# Altium footprint library cw32无刷驱动.PcbLib: 33 footprints (part 1 of 3)
Each footprint in its own frame and in the unit in brackets; x right, y up, seen from the top. Pads: shape width x height; smd on the part's side, far side on the other; paste and mask are expansions set on the pad; w line width, h text height; cw(c..) or ccw(c..) is an arc to the next point about the centre after c.
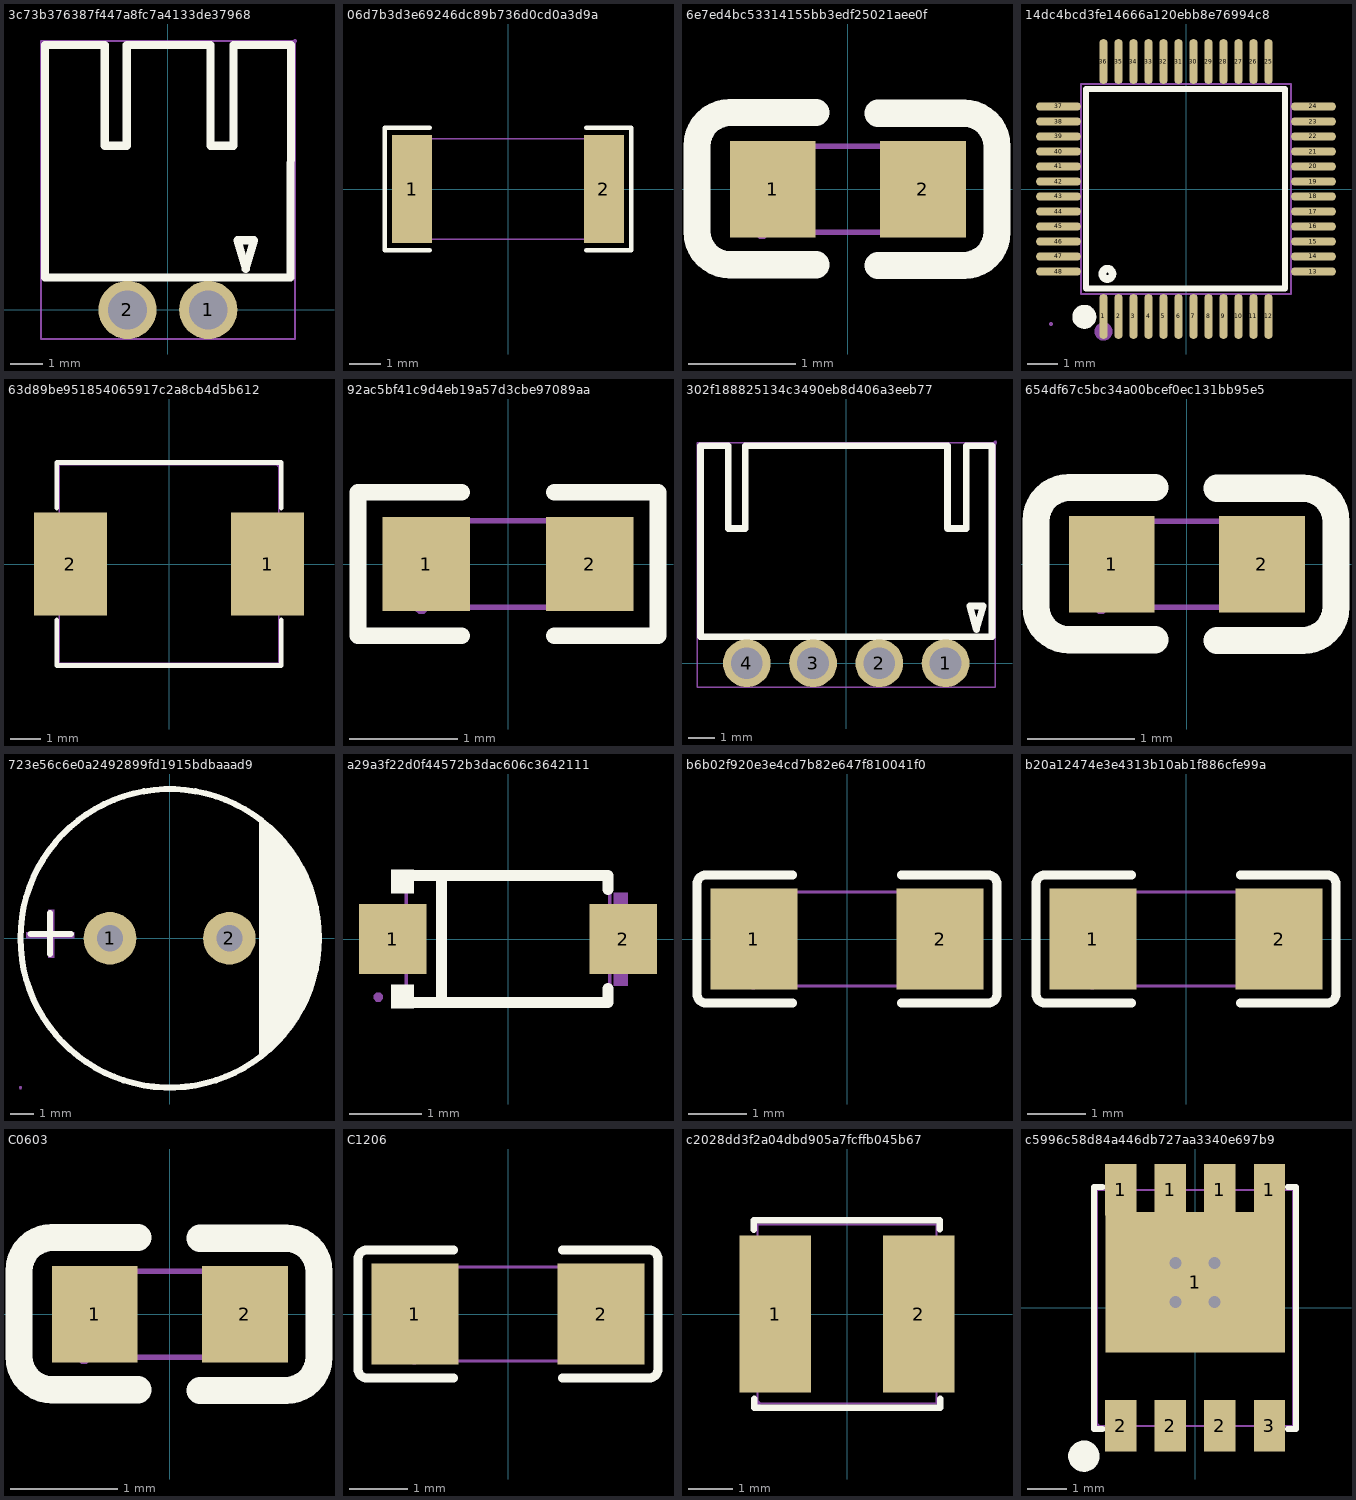
[diagram p0: the footprints below, top view; thin cyan lines are the x and y axes]

## 3c73b376387f447a8fc7a4133de37968 [mm]
pads (2):
  round 1.801 hole 1.199 mask+0.051: 1(1.25,0) 2(-1.25,0)
Top Overlay:
  lines w0.254: -3.8,1.001 3.8,1.001 3.81,8.199 2.032,8.199 2.032,5.08 1.323,5.08 1.323,8.199 -1.27,8.199 -1.27,5.08 -1.953,5.08 -1.953,8.199 -3.8,8.199 -3.8,1.001 ; 2.159,2.159 2.413,1.27 2.667,2.159 2.159,2.159
Mechanical 15:
  region: 3.937,8.387 3.912,8.387 3.876,8.351 3.876,8.301 3.912,8.265 3.937,8.265 3.962,8.265 3.998,8.301 3.998,8.351 3.962,8.387 3.937,8.387
  region: 1.25,0.5 1.15,0.5 0.966,0.424 0.825,0.283 0.749,0.1 0.749,-0.1 0.825,-0.283 0.966,-0.424 1.15,-0.5 1.25,-0.5 1.349,-0.5 1.533,-0.424 1.674,-0.283 1.75,-0.1 1.75,0.1 1.674,0.283 1.533,0.424 1.349,0.5 1.25,0.5
  region: -1.25,0.5 -1.349,0.5 -1.533,0.424 -1.674,0.283 -1.75,0.1 -1.75,-0.1 -1.674,-0.283 -1.533,-0.424 -1.349,-0.5 -1.25,-0.5 -1.15,-0.5 -0.966,-0.424 -0.825,-0.283 -0.749,-0.1 -0.749,0.1 -0.825,0.283 -0.966,0.424 -1.15,0.5 -1.25,0.5
  lines w0.051: -3.927,-0.899 -3.927,8.326 3.937,8.326 3.937,-0.899 -3.927,-0.899

## 06d7b3d3e69246dc89b736d0cd0a3d9a [mil]
pads (2):
  rect 50.5x136.1 smd mask+2: 1(-120.7,0) 2(120.7,0)
Top Overlay:
  lines w6: -98.5,-77 -155,-77 -155,77 -98.5,77 ; 98.5,-77 155,-77 155,77 98.5,77
Top Paste:
  region: 95.5,-64.1 95.5,-27.1 99.4,-23.1 108.7,-23.1 112.6,-19.2 112.6,19.2 108.7,23.1 99.4,23.1 95.5,27.1 95.5,64.1 99.4,68 142,68 146,64.1 146,-64.1 142,-68 99.4,-68
  region: -95.5,-64.1 -95.5,-27.1 -99.4,-23.1 -108.7,-23.1 -112.6,-19.2 -112.6,19.2 -108.7,23.1 -99.4,23.1 -95.5,27.1 -95.5,64.1 -99.4,68 -142,68 -146,64.1 -146,-64.1 -142,-68 -99.4,-68
Mechanical 15:
  region: -125,-60.6 -125.99,-60.6 -127.4,-62.01 -127.4,-63.99 -125.99,-65.4 -125,-65.4 -124.01,-65.4 -122.6,-63.99 -122.6,-62.01 -124.01,-60.6 -125,-60.6
  region: -124,-63 -124,63 -100.4,63 -100.4,-63
  region: 100.4,-63 100.4,63 124,63 124,-63
  lines w2: -124,-63 -124,63 124,63 124,-63 -124,-63

## 6e7ed4bc53314155bb3edf25021aee0f [mm]
pads (2):
  rect 0.8x0.9 smd mask+0.051: 1(-0.7,0) 2(0.7,0)
Top Overlay:
  lines w0.254: -0.296,-0.704 -1.096,-0.704 cw(c-1.096,-0.394) -1.406,-0.394 -1.405,0.406 cw(c-1.096,0.406) -1.096,0.715 -0.296,0.715 ; 0.28,-0.71 1.08,-0.71 ccw(c1.08,-0.4) 1.39,-0.4 1.39,0.4 ccw(c1.08,0.4) 1.08,0.71 0.28,0.71
Mechanical 15:
  region: -0.8,-0.34 -0.825,-0.34 -0.86,-0.375 -0.86,-0.425 -0.825,-0.46 -0.8,-0.46 -0.775,-0.46 -0.74,-0.425 -0.74,-0.375 -0.775,-0.34 -0.8,-0.34
  region: -0.8,-0.4 -0.8,0.4 -0.5,0.4 -0.5,-0.4
  region: 0.8,-0.4 0.8,0.4 0.5,0.4 0.5,-0.4
  lines w0.051: -0.8,-0.4 -0.8,0.4 0.8,0.4 0.8,-0.4 -0.8,-0.4

## 14dc4bcd3fe14666a120ebb8e76994c8 [mm]
pads (48):
  oval 0.27x1.5 smd mask+0.05: 1(-2.75,-4.25) 2(-2.25,-4.25) 3(-1.75,-4.25) 4(-1.25,-4.25) 5(-0.75,-4.25) 6(-0.25,-4.25) 7(0.25,-4.25) 8(0.75,-4.25) 9(1.25,-4.25) 10(1.75,-4.25) 11(2.25,-4.25) 12(2.75,-4.25) 25(2.75,4.25) 26(2.25,4.25) 27(1.75,4.25) 28(1.25,4.25) 29(0.75,4.25) 30(0.25,4.25) 31(-0.25,4.25) 32(-0.75,4.25) 33(-1.25,4.25) 34(-1.75,4.25) 35(-2.25,4.25) 36(-2.75,4.25)
  oval 1.5x0.27 smd mask+0.05: 13(4.25,-2.75) 14(4.25,-2.25) 15(4.25,-1.75) 16(4.25,-1.25) 17(4.25,-0.75) 18(4.25,-0.25) 19(4.25,0.25) 20(4.25,0.75) 21(4.25,1.25) 22(4.25,1.75) 23(4.25,2.25) 24(4.25,2.75) 37(-4.25,2.75) 38(-4.25,2.25) 39(-4.25,1.75) 40(-4.25,1.25) 41(-4.25,0.75) 42(-4.25,0.25) 43(-4.25,-0.25) 44(-4.25,-0.75) 45(-4.25,-1.25) 46(-4.25,-1.75) 47(-4.25,-2.25) 48(-4.25,-2.75)
Top Overlay:
  circle w0.254: c-2.62,-2.83 r0.17
  lines w0.2: -2.896,3.34 3.302,3.34 3.302,-3.315 -3.327,-3.315 -3.327,3.34 -2.565,3.34
  lines w0.4: -3.39,-4.06 ccw(c-3.389,-4.26) -3.387,-4.06
Mechanical 6:
  circle w0.3: c-2.75,-4.75 r0.15
Mechanical 15:
  drawing of 101 lines, arcs and shapes, not listed

## 63d89be951854065917c2a8cb4d5b612 [mm]
pads (2):
  rect 2.423x3.419 smd mask+0.051: 1(3.279,0) 2(-3.279,0)
Top Overlay:
  lines w0.152: -3.726,-1.862 -3.726,-3.376 3.726,-3.376 3.726,-1.862 ; -3.726,1.862 -3.726,3.376 3.726,3.376 3.726,1.862
Mechanical 15:
  region: 3.65,3.36 3.625,3.36 3.589,3.325 3.589,3.274 3.625,3.238 3.65,3.238 3.675,3.238 3.711,3.274 3.711,3.325 3.675,3.36 3.65,3.36
  region: -3.65,-1.501 -3.65,1.501 -2.149,1.501 -2.149,-1.501
  region: 3.65,-1.501 3.65,1.501 2.149,1.501 2.149,-1.501
  lines w0.051: -3.65,-3.299 -3.65,3.299 3.65,3.299 3.65,-3.299 -3.65,-3.299

## 92ac5bf41c9d4eb19a57d3cbe97089aa [mm]
pads (2):
  rect 0.806x0.864 smd mask+0.051: 1(-0.753,0) 2(0.753,0)
Top Overlay:
  lines w0.152: -0.426,-0.661 -1.385,-0.661 -1.385,0.661 -0.426,0.661 ; 0.426,-0.661 1.385,-0.661 1.385,0.661 0.426,0.661
Top Paste:
  region: 1.195,0.45 0.395,0.45 0.345,0.4 0.345,0.172 0.715,0.172 0.715,-0.158 0.345,-0.158 0.345,-0.4 0.395,-0.45 1.195,-0.45 1.245,-0.4 1.245,0.4
  region: -0.355,0.4 -0.355,0.172 -0.735,0.172 -0.735,-0.158 -0.355,-0.158 -0.355,-0.4 -0.405,-0.45 -1.195,-0.45 -1.245,-0.4 -1.245,0.4 -1.195,0.45 -0.405,0.45
Mechanical 15:
  region: -0.74,-0.4 -0.74,-0.375 -0.775,-0.34 -0.825,-0.34 -0.86,-0.375 -0.86,-0.4 -0.86,-0.425 -0.825,-0.46 -0.775,-0.46 -0.74,-0.425 -0.74,-0.4
  region: -0.8,-0.4 -0.8,0.4 -0.5,0.4 -0.5,-0.4
  region: 0.8,-0.4 0.8,0.4 0.5,0.4 0.5,-0.4
  lines w0.051: -0.8,-0.4 -0.8,0.4 0.8,0.4 0.8,-0.4 -0.8,-0.4

## 302f188825134c3490eb8d406a3eeb77 [mm]
pads (4):
  round 1.801 hole 1.199 mask+0.051: 1(3.749,0) 2(1.25,0) 3(-1.25,0) 4(-3.749,0)
Top Overlay:
  lines w0.254: -5.502,1.001 5.499,1.001 5.499,8.199 4.531,8.199 4.531,5.08 3.823,5.08 3.823,8.199 -3.81,8.199 -3.81,5.08 -4.445,5.08 -4.445,8.199 -5.502,8.199 ; -5.499,1.001 -5.499,8.199 ; 4.658,2.159 5.166,2.159 4.912,1.27 4.658,2.159
Mechanical 15:
  region: 4.249,0 4.249,0.1 4.173,0.283 4.032,0.424 3.849,0.5 3.65,0.5 3.466,0.424 3.325,0.283 3.249,0.1 3.249,0 3.249,-0.1 3.325,-0.283 3.466,-0.424 3.65,-0.5 3.849,-0.5 4.032,-0.424 4.173,-0.283 4.249,-0.1 4.249,0
  region: 1.75,0 1.75,0.1 1.674,0.283 1.533,0.424 1.349,0.5 1.15,0.5 0.966,0.424 0.825,0.283 0.749,0.1 0.749,0 0.749,-0.1 0.825,-0.283 0.966,-0.424 1.15,-0.5 1.349,-0.5 1.533,-0.424 1.674,-0.283 1.75,-0.1 1.75,0
  region: -0.749,0 -0.749,0.1 -0.825,0.283 -0.966,0.424 -1.15,0.5 -1.349,0.5 -1.533,0.424 -1.674,0.283 -1.75,0.1 -1.75,0 -1.75,-0.1 -1.674,-0.283 -1.533,-0.424 -1.349,-0.5 -1.15,-0.5 -0.966,-0.424 -0.825,-0.283 -0.749,-0.1 -0.749,0
  region: -3.249,0 -3.249,0.1 -3.325,0.283 -3.466,0.424 -3.65,0.5 -3.849,0.5 -4.032,0.424 -4.173,0.283 -4.249,0.1 -4.249,0 -4.249,-0.1 -4.173,-0.283 -4.032,-0.424 -3.849,-0.5 -3.65,-0.5 -3.466,-0.424 -3.325,-0.283 -3.249,-0.1 -3.249,0
  region: 5.687,8.326 5.687,8.351 5.651,8.387 5.601,8.387 5.565,8.351 5.565,8.326 5.565,8.301 5.601,8.265 5.651,8.265 5.687,8.301 5.687,8.326
  lines w0.051: -5.629,-0.899 5.626,-0.899 5.626,8.326 -5.629,8.326 -5.629,-0.899

## 654df67c5bc34a00bcef0ec131bb95e5 [mm]
pads (2):
  rect 0.8x0.9 smd mask+0.051: 1(-0.7,0) 2(0.7,0)
Top Overlay:
  lines w0.254: -0.296,-0.704 -1.096,-0.704 cw(c-1.096,-0.394) -1.406,-0.394 -1.405,0.406 cw(c-1.096,0.406) -1.096,0.715 -0.296,0.715 ; 0.28,-0.71 1.08,-0.71 ccw(c1.08,-0.4) 1.39,-0.4 1.39,0.4 ccw(c1.08,0.4) 1.08,0.71 0.28,0.71
Mechanical 15:
  region: -0.8,-0.34 -0.825,-0.34 -0.86,-0.375 -0.86,-0.425 -0.825,-0.46 -0.8,-0.46 -0.775,-0.46 -0.74,-0.425 -0.74,-0.375 -0.775,-0.34 -0.8,-0.34
  region: -0.8,-0.4 -0.8,0.4 -0.5,0.4 -0.5,-0.4
  region: 0.8,-0.4 0.8,0.4 0.5,0.4 0.5,-0.4
  lines w0.051: -0.8,-0.4 -0.8,0.4 0.8,0.4 0.8,-0.4 -0.8,-0.4

## 723e56c6e0a2492899fd1915bdbaaad9 [mm]
pads (2):
  round 2.2 hole 1.1 mask+0.05: 1(-2.5,0) 2(2.5,0)
Top Overlay:
  circle w0.254: c0,0 r6.25
  region: 3.75,5 3.75,-5 4.482,-4.268 4.692,-4.058 5.068,-3.6 5.397,-3.107 5.677,-2.584 5.904,-2.036 6.076,-1.468 6.192,-0.887 6.25,-0.297 6.25,0 6.25,0.297 6.192,0.887 6.076,1.468 5.904,2.036 5.677,2.584 5.397,3.107 5.068,3.6 4.692,4.058 4.482,4.268 3.75,5
  lines w0.254: -5.817,0.178 -4.14,0.178 ; -5.004,-0.66 -5.004,1.067
Mechanical 6:
  region: -6,0.25 -4,0.25 -4,0 -6,0
  region: -5.092,-0.811 -5.092,1.189 -4.842,1.189 -4.842,-0.811
Mechanical 15:
  region: -6.25,-6.19 -6.275,-6.19 -6.31,-6.225 -6.31,-6.275 -6.275,-6.31 -6.25,-6.31 -6.225,-6.31 -6.19,-6.275 -6.19,-6.225 -6.225,-6.19 -6.25,-6.19
  region: -2.5,0.3 -2.56,0.3 -2.67,0.254 -2.754,0.17 -2.8,0.06 -2.8,-0.06 -2.754,-0.17 -2.67,-0.254 -2.56,-0.3 -2.5,-0.3 -2.44,-0.3 -2.33,-0.254 -2.246,-0.17 -2.2,-0.06 -2.2,0.06 -2.246,0.17 -2.33,0.254 -2.44,0.3 -2.5,0.3
  region: 2.5,0.3 2.44,0.3 2.33,0.254 2.246,0.17 2.2,0.06 2.2,-0.06 2.246,-0.17 2.33,-0.254 2.44,-0.3 2.5,-0.3 2.56,-0.3 2.67,-0.254 2.754,-0.17 2.8,-0.06 2.8,0.06 2.754,0.17 2.67,0.254 2.56,0.3 2.5,0.3
  lines w0.051: -6.25,0 cw(c0,0) 6.25,0 cw(c0,0) -6.25,0

## a29a3f22d0f44572b3dac606c3642111 [mm]
pads (2):
  rect 0.93x0.96 smd mask+0.051: 1(-1.585,0) 2(1.585,0)
Top Overlay:
  region: -1.3,0.953 -1.3,0.632 -1.605,0.632 -1.605,0.953
  region: -1.3,-0.953 -1.3,-0.632 -1.605,-0.632 -1.605,-0.953
  lines w0.152: -1.377,-0.876 1.377,-0.876 1.377,-0.683 ; -1.377,0.876 1.377,0.876 1.377,0.683 ; -0.917,-0.876 -0.917,0.876
Mechanical 6:
  region: -1.905,0.127 -1.905,-0.066 -1.138,-0.066 -1.138,0.127
  region: 1.905,0.127 1.905,-0.066 1.138,-0.066 1.138,0.127
  region: 1.651,0.635 1.651,-0.645 1.458,-0.645 1.458,0.635
Mechanical 15:
  region: -1.786,0.399 -1.384,0.399 -1.384,-0.399 -1.786,-0.399
  region: 1.786,-0.399 1.384,-0.399 1.384,0.399 1.786,0.399
  region: -1.786,-0.739 -1.811,-0.739 -1.847,-0.775 -1.847,-0.825 -1.811,-0.861 -1.786,-0.861 -1.76,-0.861 -1.725,-0.825 -1.725,-0.775 -1.76,-0.739 -1.786,-0.739
  lines w0.051: -1.4,-0.851 1.4,-0.851 1.4,0.851 -1.4,0.851 -1.4,-0.851

## b6b02f920e3e4cd7b82e647f810041f0 [mil]
pads (2):
  rect 58.5x68 smd mask+2: 1(-62.7,0) 2(62.7,0)
Top Overlay:
  lines w6: -100.93,-37.02 ccw(c-94.93,-37.02) -94.93,-43.02 ; -100.93,37.02 cw(c-94.93,37.02) -94.93,43.02 ; -100.9,-37 -100.9,37 ; -94.9,-43 -36.5,-43 ; -94.9,43 -36.5,43 ; 36.5,-43 94.9,-43 ; 36.5,43 94.9,43 ; 94.93,-43.02 ccw(c94.93,-37.02) 100.93,-37.02 ; 94.93,43.02 cw(c94.93,37.02) 100.93,37.02 ; 100.9,-37 100.9,37
Top Paste:
  region: -33.5,-30.1 -33.5,-15.5 -37.4,-11.6 -49.4,-11.6 -53.3,-7.6 -53.3,7.6 -49.4,11.6 -37.4,11.6 -33.5,15.5 -33.5,30.1 -37.4,34 -88,34 -91.9,30.1 -91.9,-30.1 -88,-34 -37.4,-34
  region: 33.5,-30.1 33.5,-15.5 37.4,-11.6 49.4,-11.6 53.3,-7.6 53.3,7.6 49.4,11.6 37.4,11.6 33.5,15.5 33.5,30.1 37.4,34 88,34 91.9,30.1 91.9,-30.1 88,-34 37.4,-34
Mechanical 15:
  region: 63,-31.5 63,31.5 43.3,31.5 43.3,-31.5
  region: -63,-31.5 -63,31.5 -43.3,31.5 -43.3,-31.5
  region: -63,-29.1 -63.99,-29.1 -65.4,-30.51 -65.4,-32.49 -63.99,-33.9 -63,-33.9 -62.01,-33.9 -60.6,-32.49 -60.6,-30.51 -62.01,-29.1 -63,-29.1
  lines w2: -63,-31.5 63,-31.5 63,31.5 -63,31.5 -63,-31.5

## b20a12474e3e4313b10ab1f886cfe99a [mil]
pads (2):
  rect 58.5x68 smd mask+2: 1(-62.7,0) 2(62.7,0)
Top Overlay:
  lines w6: -100.93,-37.02 ccw(c-94.93,-37.02) -94.93,-43.02 ; -100.93,37.02 cw(c-94.93,37.02) -94.93,43.02 ; -100.9,-37 -100.9,37 ; -94.9,-43 -36.5,-43 ; -94.9,43 -36.5,43 ; 36.5,-43 94.9,-43 ; 36.5,43 94.9,43 ; 94.93,-43.02 ccw(c94.93,-37.02) 100.93,-37.02 ; 94.93,43.02 cw(c94.93,37.02) 100.93,37.02 ; 100.9,-37 100.9,37
Top Paste:
  region: -33.5,-30.1 -33.5,-15.5 -37.4,-11.6 -49.4,-11.6 -53.3,-7.6 -53.3,7.6 -49.4,11.6 -37.4,11.6 -33.5,15.5 -33.5,30.1 -37.4,34 -88,34 -91.9,30.1 -91.9,-30.1 -88,-34 -37.4,-34
  region: 33.5,-30.1 33.5,-15.5 37.4,-11.6 49.4,-11.6 53.3,-7.6 53.3,7.6 49.4,11.6 37.4,11.6 33.5,15.5 33.5,30.1 37.4,34 88,34 91.9,30.1 91.9,-30.1 88,-34 37.4,-34
Mechanical 15:
  region: 63,-31.5 63,31.5 43.3,31.5 43.3,-31.5
  region: -63,-31.5 -63,31.5 -43.3,31.5 -43.3,-31.5
  region: -60.6,-31.5 -60.6,-30.51 -62.01,-29.1 -63.99,-29.1 -65.4,-30.51 -65.4,-31.5 -65.4,-32.49 -63.99,-33.9 -62.01,-33.9 -60.6,-32.49 -60.6,-31.5
  lines w2: -63,-31.5 63,-31.5 63,31.5 -63,31.5 -63,-31.5

## C0603 [mm]
pads (2):
  rect 0.8x0.9 smd mask+0.051: 1(-0.7,0) 2(0.7,0)
Top Overlay:
  lines w0.254: -0.296,-0.704 -1.096,-0.704 cw(c-1.096,-0.394) -1.406,-0.394 -1.405,0.406 cw(c-1.096,0.406) -1.096,0.715 -0.296,0.715 ; 0.28,-0.71 1.08,-0.71 ccw(c1.08,-0.4) 1.39,-0.4 1.39,0.4 ccw(c1.08,0.4) 1.08,0.71 0.28,0.71
Mechanical 15:
  region: 0.8,-0.4 0.8,0.4 0.5,0.4 0.5,-0.4
  region: -0.8,-0.4 -0.8,0.4 -0.5,0.4 -0.5,-0.4
  region: -0.86,-0.4 -0.86,-0.425 -0.825,-0.46 -0.775,-0.46 -0.74,-0.425 -0.74,-0.4 -0.74,-0.375 -0.775,-0.34 -0.825,-0.34 -0.86,-0.375 -0.86,-0.4
  lines w0.051: -0.8,-0.4 0.8,-0.4 0.8,0.4 -0.8,0.4 -0.8,-0.4

## C1206 [mil]
pads (2):
  rect 58.5x68 smd mask+2: 1(-62.7,0) 2(62.7,0)
Top Overlay:
  lines w6: -100.93,-37.02 ccw(c-94.93,-37.02) -94.93,-43.02 ; -100.93,37.02 cw(c-94.93,37.02) -94.93,43.02 ; -100.9,-37 -100.9,37 ; -94.9,-43 -36.5,-43 ; -94.9,43 -36.5,43 ; 36.5,-43 94.9,-43 ; 36.5,43 94.9,43 ; 94.93,-43.02 ccw(c94.93,-37.02) 100.93,-37.02 ; 94.93,43.02 cw(c94.93,37.02) 100.93,37.02 ; 100.9,-37 100.9,37
Top Paste:
  region: -33.5,-30.1 -33.5,-15.5 -37.4,-11.6 -49.4,-11.6 -53.3,-7.6 -53.3,7.6 -49.4,11.6 -37.4,11.6 -33.5,15.5 -33.5,30.1 -37.4,34 -88,34 -91.9,30.1 -91.9,-30.1 -88,-34 -37.4,-34
  region: 33.5,-30.1 33.5,-15.5 37.4,-11.6 49.4,-11.6 53.3,-7.6 53.3,7.6 49.4,11.6 37.4,11.6 33.5,15.5 33.5,30.1 37.4,34 88,34 91.9,30.1 91.9,-30.1 88,-34 37.4,-34
Mechanical 15:
  region: 63,-31.5 63,31.5 43.3,31.5 43.3,-31.5
  region: -63,-31.5 -63,31.5 -43.3,31.5 -43.3,-31.5
  region: -63,-33.9 -62.01,-33.9 -60.6,-32.49 -60.6,-30.51 -62.01,-29.1 -63,-29.1 -63.99,-29.1 -65.4,-30.51 -65.4,-32.49 -63.99,-33.9 -63,-33.9
  lines w2: -63,-31.5 63,-31.5 63,31.5 -63,31.5 -63,-31.5

## c2028dd3f2a04dbd905a7fcffb045b67 [mil]
pads (2):
  rect 63x137.8 smd mask+2: 1(-63,0) 2(63,0)
Top Overlay:
  lines w5.9: -81.9,74 -82,82.5 81.5,82.5 81.5,74.8 ; -81.5,-74.4 -81.5,-82.5 82,-82.5 81.9,-74.8
Mechanical 15:
  region: -78.7,65 -41.3,65 -41.3,-65 -78.7,-65
  region: 41.3,65 78.7,65 78.7,-65 41.3,-65
  region: -78.7,-81.1 -77.71,-81.1 -76.3,-79.69 -76.3,-77.71 -77.71,-76.3 -78.7,-76.3 -79.69,-76.3 -81.1,-77.71 -81.1,-79.69 -79.69,-81.1 -78.7,-81.1
  lines w2: -78.7,-78.7 78.7,-78.7 78.7,78.7 -78.7,78.7 -78.7,-78.7

## c5996c58d84a446db727aa3340e697b9 [mil]
pads (9):
  rect 31.5x52 smd mask+2: 1(-75,119.1) 1(-25,119.1) 1(25,119.1) 1(75,119.1) 2(-75,-119.1) 2(-25,-119.1) 2(25,-119.1) 3(75,-119.1)
  rect 181.1x141.7 smd mask+2: 1(0,25.6)
via 19.7,5.9 diameter 24 hole 12
via -19.7,5.9 diameter 24 hole 12
via 19.7,45.3 diameter 24 hole 12
via -19.7,45.3 diameter 24 hole 12
Top Overlay:
  circle w15.7: c-112.2,-149.6 r7.9
  lines w6: -93.5,-122.1 -101.8,-122.1 -101.8,122.1 -93.5,122.1 ; 93.5,-122.1 101.8,-122.1 101.8,122.1 93.5,122.1
Top Paste:
  region: -90.7,145.1 -59.2,145.1 -59.2,93.1 -90.7,93.1
  region: -40.7,145.1 -9.2,145.1 -9.2,93.1 -40.7,93.1
  region: 9.3,145.1 40.8,145.1 40.8,93.1 9.3,93.1
  region: 59.3,145.1 90.8,145.1 90.8,93.1 59.3,93.1
  region: -90.7,-93.1 -59.2,-93.1 -59.2,-145.1 -90.7,-145.1
  region: -40.7,-93.1 -9.2,-93.1 -9.2,-145.1 -40.7,-145.1
  region: 9.3,-93.1 40.8,-93.1 40.8,-145.1 9.3,-145.1
  region: 59.3,-93.1 90.8,-93.1 90.8,-145.1 59.3,-145.1
  region: -90.6,78.7 90.6,78.7 90.6,-45.3 -90.6,-45.3
Mechanical 6:
  circle w7.9: c-75,-130.9 r3.9
Mechanical 15:
  region: -78.9,-29.1 -78.9,94 78.9,94 78.9,-42.8 -65.3,-42.8
  region: -82.9,119.1 -82.9,94.1 -67.1,94.1 -67.1,119.1
  region: -32.9,119.1 -32.9,94.1 -17.1,94.1 -17.1,119.1
  region: 17.1,119.1 17.1,94.1 32.9,94.1 32.9,119.1
  region: 67.1,119.1 67.1,94.1 82.9,94.1 82.9,119.1
  region: 67.1,-119.1 67.1,-94.1 82.9,-94.1 82.9,-119.1
  region: 17.1,-119.1 17.1,-94.1 32.9,-94.1 32.9,-119.1
  region: -32.9,-119.1 -32.9,-94.1 -17.1,-94.1 -17.1,-119.1
  region: -82.9,-119.1 -82.9,-94.1 -67.1,-94.1 -67.1,-119.1
  region: -98.8,-121.5 -97.81,-121.5 -96.4,-120.09 -96.4,-118.11 -97.81,-116.7 -98.8,-116.7 -99.79,-116.7 -101.2,-118.11 -101.2,-120.09 -99.79,-121.5 -98.8,-121.5
  lines w2: -98.8,-119.1 98.8,-119.1 98.8,119.1 -98.8,119.1 -98.8,-119.1